# Altium integrated library WE-LHMI_1365.IntLib: 1 symbol
Pins are listed as number, name and electrical type; pins without a type are passive.

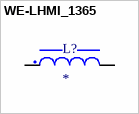
[diagram p0: symbol WE-LHMI_1365]

## WE-LHMI_1365
designator L?
MF: {'manufacturer': u'Wurth Electronics Inc.'}; MP: 744373965101; Package: None; Price: None; Value: *; Availability: Unavailable
footprint WE-LHMI_1365
pins: 1, 2